# EAGLE library part MCP4912 (library gen433)
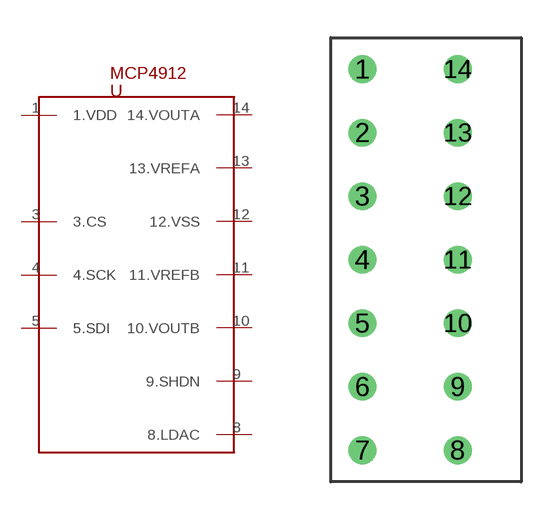
[diagram p2: symbol with the pads of MCP4912; footprint MCP4912]

Designator prefix -

## MCP4912MCP4912  [MCP4912]
1  1.VDD
3  3.CS
4  4.SCK
5  5.SDI
8  8.LDAC
9  9.SHDN
10  10.VOUTB
11  11.VREFB
12  12.VSS
13  13.VREFA
14  14.VOUTA

## Footprint MCP4912 (pad centres in mm)
drill 0.6: 1 0,11.43; 2 0,8.89; 3 0,6.35; 4 0,3.81; 5 0,1.27; 6 0,-1.27; 7 0,-3.81; 8 3.81,-3.81; 9 3.81,-1.27; 10 3.81,1.27; 11 3.81,3.81; 12 3.81,6.35; 13 3.81,8.89; 14 3.81,11.43